# EAGLE library part DF11-06-2 (library con-hirose-df11)
HEADER
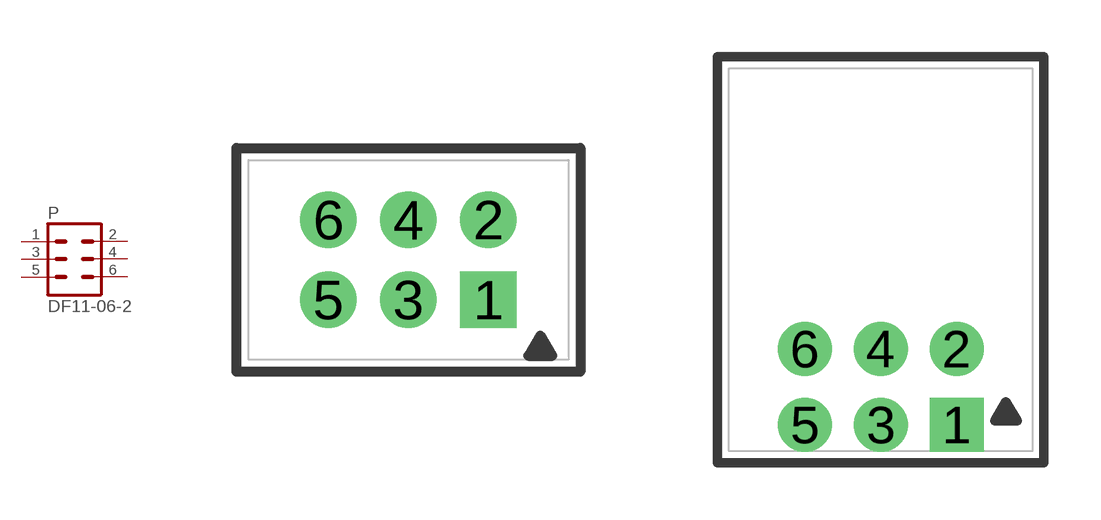
[diagram p0: symbol with the pads of DF11-06DP-2DSA; footprints DF11-06DP-2DSA, DF11-06DP-2DS]

Designator prefix P

## DF11-06-2DSA  [DF11-06DP-2DSA]
1  1  pas
2  2  pas
3  3  pas
4  4  pas
5  5  pas
6  6  pas

## DF11-06-2DS  [DF11-06DP-2DS]
Pads as for DF11-06DP-2DSA

## Footprint DF11-06DP-2DSA (pad centres in mm)
HEADER
drill 0.914 square: 1 2,-1
drill 0.914: 2 2,1; 3 0,-1; 4 0,1; 5 -2,-1; 6 -2,1

## Footprint DF11-06DP-2DS (pad centres in mm)
HEADER
drill 0.914 square: 1 2,-1
drill 0.914: 2 2,1; 3 0,-1; 4 0,1; 5 -2,-1; 6 -2,1